# Altium schematic symbol library CN 4POS JST ZR RA.SchLib: 1 symbol
Pins are listed as number, name and electrical type; pins without a type are passive.

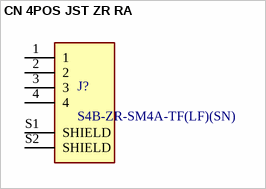
[diagram p0: symbol CN 4POS JST ZR RA]

## CN 4POS JST ZR RA
designator J?, comment S4B-ZR-SM4A-TF(LF)(SN)
Connector Header Surface Mount, Right Angle 4 position 0.059 (1.50mm); MF: JST Sales; SnapEDA_Link: https://www.snapeda.com/parts/S4B-ZR-SM4A-TF(LF)(SN)/JST%20Sales%20America%20Inc./view-part/449060/?ref=snap; Availability: Unavailable; Value: *; Price: None; Arrow_Electronics-Purchase-URL: https://snapeda.com/shop?store=Arrow+Electronics&id=449060; MP: S4B-ZR-SM4A-TF(LF)(SN); Package: None
footprint JST_S4B-ZR-SM4A-TF(LF)(SN)
pins: 1, 2, 3, 4, S1 SHIELD, S2 SHIELD